# Altium integrated library Resistors.IntLib: 4954 symbols (part 2 of 32)
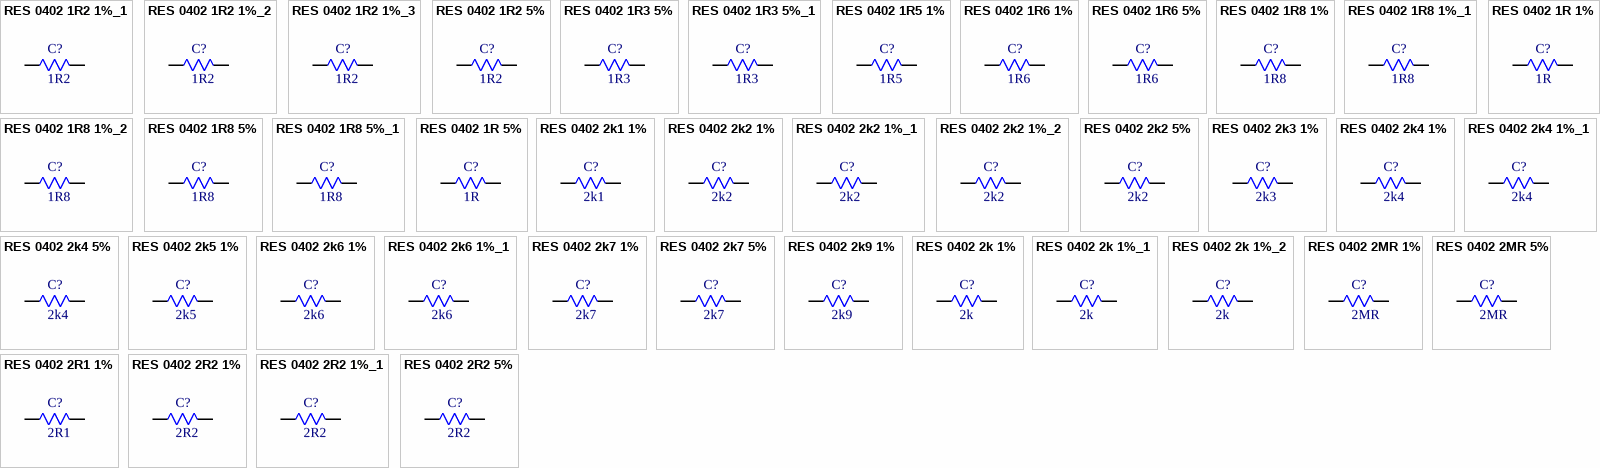
[diagram p124: symbols RES 0402 1R2 1%_1 to RES 0402 2R2 5%]

## RES 0402 2MR 5%
designator C?, comment 2MR
2MR 5% 62.5mW 0402 Thick Film Resistor; Manufacturer: FOJAN; Manufacturer Part Number: FRC0402J205TS; Voltage Rating: 50V; Supplier: LCSC; Supplier Part Number: C2929915; Resistance: 2MR; Tolerance: 5%; Power: 62.5mW
footprint RES SMD 0402
pins: 1, 2

## RES 0402 2R1 1%
designator C?, comment 2R1
2.1MR 62.5mW 50V Thick Film Resistor 1% 0402 Chip Resistor - Surface Mount RoHS; Manufacturer: FOJAN; Manufacturer Part Number: FRC0402F2104TS; Supplier: LCSC; Supplier Part Number: C51048320; Resistance: 2R1; Tolerance: 1%; Voltage Rating: 50V; Power: 62.5mW
footprint RES SMD 0402
pins: 1, 2

## RES 0402 2R2 1%
designator C?, comment 2R2
2.2R 1% 62.5mW 0402 Thick Film Resistor; Manufacturer: FOJAN; Manufacturer Part Number: FRC0402F2R20TS; Voltage Rating: 50V; Supplier: LCSC; Supplier Part Number: C2909330; Resistance: 2R2; Tolerance: 1%; Power: 62.5mW
footprint RES SMD 0402
pins: 1, 2

## RES 0402 2R2 1%_1
designator C?, comment 2R2
2.2MR 1% 62.5mW 0402 Thick Film Resistor; Manufacturer: FOJAN; Manufacturer Part Number: FRC0402F2204TS; Voltage Rating: 50V; Supplier: LCSC; Supplier Part Number: C2998080; Resistance: 2R2; Tolerance: 1%; Power: 62.5mW
footprint RES SMD 0402
pins: 1, 2

## RES 0402 2R2 5%
designator C?, comment 2R2
2.2R 62.5mW 50V Thick Film Resistor 5% 0402 Chip Resistor - Surface Mount RoHS; Manufacturer: FOJAN; Manufacturer Part Number: FRQ0402J2R2 TS; Supplier: LCSC; Supplier Part Number: C52033564; Resistance: 2R2; Tolerance: 5%; Voltage Rating: 50V; Power: 62.5mW
footprint RES SMD 0402
pins: 1, 2

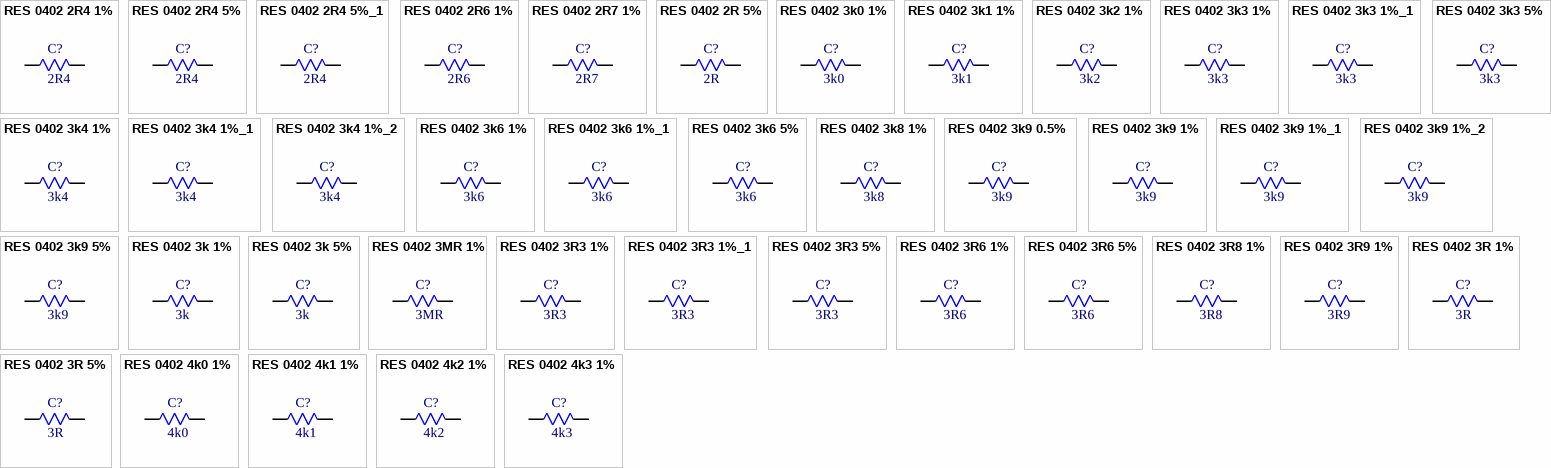
[diagram p4: symbols RES 0402 2R4 1% to RES 0402 4k3 1%]

## RES 0402 2R4 1%
designator C?, comment 2R4
2.49MR 1% 62.5mW 0402 Thick Film Resistor; Manufacturer: FOJAN; Manufacturer Part Number: FRC0402F2494TS; Voltage Rating: 50V; Supplier: LCSC; Supplier Part Number: C5159683; Resistance: 2R4; Tolerance: 1%; Power: 62.5mW
footprint RES SMD 0402
pins: 1, 2

## RES 0402 2R4 5%
designator C?, comment 2R4
2.4MR 62.5mW 50V Thick Film Resistor 5% 100ppm/â„ƒ 0402 Chip Resistor - Surface Mount RoHS; Manufacturer: FOJAN; Manufacturer Part Number: FRC0402J245 TS; Supplier: LCSC; Supplier Part Number: C7467417; Resistance: 2R4; Tolerance: 5%; Voltage Rating: 50V; Power: 62.5mW
footprint RES SMD 0402
pins: 1, 2

## RES 0402 2R4 5%_1
designator C?, comment 2R4
2.4R 5% 62.5mW 0402 Thick Film Resistor; Manufacturer: FOJAN; Manufacturer Part Number: FRC0402J2R4 TS; Voltage Rating: 50V; Supplier: LCSC; Supplier Part Number: C2906904; Resistance: 2R4; Tolerance: 5%; Power: 62.5mW
footprint RES SMD 0402
pins: 1, 2

## RES 0402 2R6 1%
designator C?, comment 2R6
2.67MR 62.5mW 50V Thick Film Resistor 1% 0402 Chip Resistor - Surface Mount RoHS; Manufacturer: FOJAN; Manufacturer Part Number: FRC0402F2674TS; Supplier: LCSC; Supplier Part Number: C51048266; Resistance: 2R6; Tolerance: 1%; Voltage Rating: 50V; Power: 62.5mW
footprint RES SMD 0402
pins: 1, 2

## RES 0402 2R7 1%
designator C?, comment 2R7
2.7R 1% 62.5mW 0402 Thick Film Resistor; Manufacturer: FOJAN; Manufacturer Part Number: FRC0402F2R70TS; Voltage Rating: 50V; Supplier: LCSC; Supplier Part Number: C2998159; Resistance: 2R7; Tolerance: 1%; Power: 62.5mW
footprint RES SMD 0402
pins: 1, 2

## RES 0402 2R 5%
designator C?, comment 2R
2R 62.5mW 50V Thick Film Resistor 5% 0402 Chip Resistor - Surface Mount RoHS; Manufacturer: FOJAN; Manufacturer Part Number: FRQ0402J2R0 TS; Supplier: LCSC; Supplier Part Number: C52033555; Resistance: 2R; Tolerance: 5%; Voltage Rating: 50V; Power: 62.5mW
footprint RES SMD 0402
pins: 1, 2

## RES 0402 3k0 1%
designator C?, comment 3k0
3.09kR 1% 62.5mW 0402 Thick Film Resistor; Manufacturer: FOJAN; Manufacturer Part Number: FRC0402F3091TS; Voltage Rating: 50V; Supplier: LCSC; Supplier Part Number: C42372091; Resistance: 3k0; Tolerance: 1%; Power: 62.5mW
footprint RES SMD 0402
pins: 1, 2

## RES 0402 3k1 1%
designator C?, comment 3k1
3.16kR 1% 62.5mW 0402 Thick Film Resistor; Manufacturer: FOJAN; Manufacturer Part Number: FRC0402F3161TS; Voltage Rating: 50V; Supplier: LCSC; Supplier Part Number: C2933087; Resistance: 3k1; Tolerance: 1%; Power: 62.5mW
footprint RES SMD 0402
pins: 1, 2

## RES 0402 3k2 1%
designator C?, comment 3k2
3.24kR 1% 62.5mW 0402 Thick Film Resistor; Manufacturer: FOJAN; Manufacturer Part Number: FRC0402F3241TS; Voltage Rating: 50V; Supplier: LCSC; Supplier Part Number: C3013163; Resistance: 3k2; Tolerance: 1%; Power: 62.5mW
footprint RES SMD 0402
pins: 1, 2

## RES 0402 3k3 1%
designator C?, comment 3k3
3.3kR 1% 62.5mW 0402 Thick Film Resistor; Manufacturer: FOJAN; Manufacturer Part Number: FRC0402F3301TS; Voltage Rating: 50V; Supplier: LCSC; Supplier Part Number: C2909345; Resistance: 3k3; Tolerance: 1%; Power: 62.5mW
footprint RES SMD 0402
pins: 1, 2

## RES 0402 3k3 1%_1
designator C?, comment 3k3
3.32kR 1% 62.5mW 0402 Thick Film Resistor; Manufacturer: FOJAN; Manufacturer Part Number: FRC0402F3321TS; Voltage Rating: 50V; Supplier: LCSC; Supplier Part Number: C2998161; Resistance: 3k3; Tolerance: 1%; Power: 62.5mW
footprint RES SMD 0402
pins: 1, 2

## RES 0402 3k3 5%
designator C?, comment 3k3
3.3kR 5% 62.5mW 0402 Thick Film Resistor; Manufacturer: FOJAN; Manufacturer Part Number: FRC0402J332 TS; Voltage Rating: 50V; Supplier: LCSC; Supplier Part Number: C2906923; Resistance: 3k3; Tolerance: 5%; Power: 62.5mW
footprint RES SMD 0402
pins: 1, 2

## RES 0402 3k4 1%
designator C?, comment 3k4
3.4kR 1% 62.5mW 0402 Thick Film Resistor; Manufacturer: FOJAN; Manufacturer Part Number: FRC0402F3401TS; Voltage Rating: 50V; Supplier: LCSC; Supplier Part Number: C3013164; Resistance: 3k4; Tolerance: 1%; Power: 62.5mW
footprint RES SMD 0402
pins: 1, 2

## RES 0402 3k4 1%_1
designator C?, comment 3k4
3.48kR 1% 62.5mW 0402 Thick Film Resistor; Manufacturer: FOJAN; Manufacturer Part Number: FRC0402F3481TS; Voltage Rating: 50V; Supplier: LCSC; Supplier Part Number: C5126222; Resistance: 3k4; Tolerance: 1%; Power: 62.5mW
footprint RES SMD 0402
pins: 1, 2

## RES 0402 3k4 1%_2
designator C?, comment 3k4
62.5mW 3.4kR 50V Thick Film Resistor 1% 0402 Chip Resistor - Surface Mount RoHS; Manufacturer: FOJAN; Manufacturer Part Number: FRQ0402F3401TS; Supplier: LCSC; Supplier Part Number: C52033543; Resistance: 3k4; Tolerance: 1%; Voltage Rating: 50V; Power: 62.5mW
footprint RES SMD 0402
pins: 1, 2

## RES 0402 3k6 1%
designator C?, comment 3k6
3.6kR 1% 62.5mW 0402 Thick Film Resistor; Manufacturer: FOJAN; Manufacturer Part Number: FRC0402F3601TS; Voltage Rating: 50V; Supplier: LCSC; Supplier Part Number: C2998073; Resistance: 3k6; Tolerance: 1%; Power: 62.5mW
footprint RES SMD 0402
pins: 1, 2

## RES 0402 3k6 1%_1
designator C?, comment 3k6
3.65kR 1% 62.5mW 0402 Thick Film Resistor; Manufacturer: FOJAN; Manufacturer Part Number: FRC0402F3651TS; Voltage Rating: 50V; Supplier: LCSC; Supplier Part Number: C3013166; Resistance: 3k6; Tolerance: 1%; Power: 62.5mW
footprint RES SMD 0402
pins: 1, 2

## RES 0402 3k6 5%
designator C?, comment 3k6
3.6kR 5% 62.5mW 0402 Thick Film Resistor; Manufacturer: FOJAN; Manufacturer Part Number: FRC0402J362TS; Voltage Rating: 50V; Supplier: LCSC; Supplier Part Number: C2929916; Resistance: 3k6; Tolerance: 5%; Power: 62.5mW
footprint RES SMD 0402
pins: 1, 2

## RES 0402 3k8 1%
designator C?, comment 3k8
3.83kR 1% 62.5mW 0402 Thick Film Resistor; Manufacturer: FOJAN; Manufacturer Part Number: FRC0402F3831TS; Voltage Rating: 50V; Supplier: LCSC; Supplier Part Number: C5159686; Resistance: 3k8; Tolerance: 1%; Power: 62.5mW
footprint RES SMD 0402
pins: 1, 2

## RES 0402 3k9 0.5%
designator C?, comment 3k9
62.5mW 3.9kR 50V Thick Film Resistor 100ppm/â„ƒ 0.5% 0402 Chip Resistor - Surface Mount RoHS; Manufacturer: FOJAN; Manufacturer Part Number: FRH0402D3901TS; Supplier: LCSC; Supplier Part Number: C48533798; Resistance: 3k9; Tolerance: 0.5%; Voltage Rating: 50V; Power: 62.5mW
footprint RES SMD 0402
pins: 1, 2

## RES 0402 3k9 1%
designator C?, comment 3k9
3.9kR 1% 62.5mW 0402 Thick Film Resistor; Manufacturer: FOJAN; Manufacturer Part Number: FRC0402F3901TS; Voltage Rating: 50V; Supplier: LCSC; Supplier Part Number: C2909346; Resistance: 3k9; Tolerance: 1%; Power: 62.5mW
footprint RES SMD 0402
pins: 1, 2

## RES 0402 3k9 1%_1
designator C?, comment 3k9
3.92kR 1% 62.5mW 0402 Thick Film Resistor; Manufacturer: FOJAN; Manufacturer Part Number: FRC0402F3921TS; Voltage Rating: 50V; Supplier: LCSC; Supplier Part Number: C2960797; Resistance: 3k9; Tolerance: 1%; Power: 62.5mW
footprint RES SMD 0402
pins: 1, 2

## RES 0402 3k9 1%_2
designator C?, comment 3k9
62.5mW 3.9kR Thick Film Resistor 1% 100ppm/â„ƒ 0402 Chip Resistor - Surface Mount RoHS; Manufacturer: FOJAN; Manufacturer Part Number: FRQ0402F3901TS; Supplier: LCSC; Supplier Part Number: C7468700; Resistance: 3k9; Tolerance: 1%; Power: 62.5mW
footprint RES SMD 0402
pins: 1, 2

## RES 0402 3k9 5%
designator C?, comment 3k9
3.9kR 5% 62.5mW 0402 Thick Film Resistor; Manufacturer: FOJAN; Manufacturer Part Number: FRC0402J392 TS; Voltage Rating: 50V; Supplier: LCSC; Supplier Part Number: C2906925; Resistance: 3k9; Tolerance: 5%; Power: 62.5mW
footprint RES SMD 0402
pins: 1, 2

## RES 0402 3k 1%
designator C?, comment 3k
3kR 1% 62.5mW 0402 Thick Film Resistor; Manufacturer: FOJAN; Manufacturer Part Number: FRC0402F3001TS; Voltage Rating: 50V; Supplier: LCSC; Supplier Part Number: C2909355; Resistance: 3k; Tolerance: 1%; Power: 62.5mW
footprint RES SMD 0402
pins: 1, 2

## RES 0402 3k 5%
designator C?, comment 3k
3kR 5% 62.5mW 0402 Thick Film Resistor; Manufacturer: FOJAN; Manufacturer Part Number: FRC0402J302 TS; Voltage Rating: 50V; Supplier: LCSC; Supplier Part Number: C2906940; Resistance: 3k; Tolerance: 5%; Power: 62.5mW
footprint RES SMD 0402
pins: 1, 2

## RES 0402 3MR 1%
designator C?, comment 3MR
3MR 1% 62.5mW 0402 Thick Film Resistor; Manufacturer: FOJAN; Manufacturer Part Number: FRC0402F3004TS; Voltage Rating: 50V; Supplier: LCSC; Supplier Part Number: C2998139; Resistance: 3MR; Tolerance: 1%; Power: 62.5mW
footprint RES SMD 0402
pins: 1, 2

## RES 0402 3R3 1%
designator C?, comment 3R3
3.3R 1% 62.5mW 0402 Thick Film Resistor; Manufacturer: FOJAN; Manufacturer Part Number: FRC0402F3R30TS; Voltage Rating: 50V; Supplier: LCSC; Supplier Part Number: C2933094; Resistance: 3R3; Tolerance: 1%; Power: 62.5mW
footprint RES SMD 0402
pins: 1, 2

## RES 0402 3R3 1%_1
designator C?, comment 3R3
3.32MR 1% 62.5mW 0402 Thick Film Resistor; Manufacturer: FOJAN; Manufacturer Part Number: FRC0402F3324TS; Voltage Rating: 50V; Supplier: LCSC; Supplier Part Number: C2998090; Resistance: 3R3; Tolerance: 1%; Power: 62.5mW
footprint RES SMD 0402
pins: 1, 2

## RES 0402 3R3 5%
designator C?, comment 3R3
3.3R 5% 62.5mW 0402 Thick Film Resistor; Manufacturer: FOJAN; Manufacturer Part Number: FRC0402J3R3 TS; Voltage Rating: 50V; Supplier: LCSC; Supplier Part Number: C2906924; Resistance: 3R3; Tolerance: 5%; Power: 62.5mW
footprint RES SMD 0402
pins: 1, 2

## RES 0402 3R6 1%
designator C?, comment 3R6
3.6MR 1% 62.5mW 0402 Thick Film Resistor; Manufacturer: FOJAN; Manufacturer Part Number: FRC0402F3604TS; Voltage Rating: 50V; Supplier: LCSC; Supplier Part Number: C3013165; Resistance: 3R6; Tolerance: 1%; Power: 62.5mW
footprint RES SMD 0402
pins: 1, 2

## RES 0402 3R6 5%
designator C?, comment 3R6
3.6R 5% 62.5mW 0402 Thick Film Resistor; Manufacturer: FOJAN; Manufacturer Part Number: FRC0402J3R6 TS; Voltage Rating: 50V; Supplier: LCSC; Supplier Part Number: C3013190; Resistance: 3R6; Tolerance: 5%; Power: 62.5mW
footprint RES SMD 0402
pins: 1, 2

## RES 0402 3R8 1%
designator C?, comment 3R8
3.83R 1% 62.5mW 0402 Thick Film Resistor; Manufacturer: FOJAN; Manufacturer Part Number: FRC0402F3R83TS; Voltage Rating: 50V; Supplier: LCSC; Supplier Part Number: C3013169; Resistance: 3R8; Tolerance: 1%; Power: 62.5mW
footprint RES SMD 0402
pins: 1, 2

## RES 0402 3R9 1%
designator C?, comment 3R9
3.9R 1% 62.5mW 0402 Thick Film Resistor; Manufacturer: FOJAN; Manufacturer Part Number: FRC0402F3R90TS; Voltage Rating: 50V; Supplier: LCSC; Supplier Part Number: C2933095; Resistance: 3R9; Tolerance: 1%; Power: 62.5mW
footprint RES SMD 0402
pins: 1, 2

## RES 0402 3R 1%
designator C?, comment 3R
3R 1% 62.5mW 0402 Thick Film Resistor; Manufacturer: FOJAN; Manufacturer Part Number: FRC0402F3R00TS; Voltage Rating: 50V; Supplier: LCSC; Supplier Part Number: C2933093; Resistance: 3R; Tolerance: 1%; Power: 62.5mW
footprint RES SMD 0402
pins: 1, 2

## RES 0402 3R 5%
designator C?, comment 3R
3R 5% 62.5mW 0402 Thick Film Resistor; Manufacturer: FOJAN; Manufacturer Part Number: FRC0402J3R0TS; Voltage Rating: 50V; Supplier: LCSC; Supplier Part Number: C2929920; Resistance: 3R; Tolerance: 5%; Power: 62.5mW
footprint RES SMD 0402
pins: 1, 2

## RES 0402 4k0 1%
designator C?, comment 4k0
4.02kR 1% 62.5mW 0402 Thick Film Resistor; Manufacturer: FOJAN; Manufacturer Part Number: FRC0402F4021TS; Voltage Rating: 50V; Supplier: LCSC; Supplier Part Number: C2998093; Resistance: 4k0; Tolerance: 1%; Power: 62.5mW
footprint RES SMD 0402
pins: 1, 2

## RES 0402 4k1 1%
designator C?, comment 4k1
4.12kR 1% 62.5mW 0402 Thick Film Resistor; Manufacturer: FOJAN; Manufacturer Part Number: FRC0402F4121TS; Voltage Rating: 50V; Supplier: LCSC; Supplier Part Number: C2930007; Resistance: 4k1; Tolerance: 1%; Power: 62.5mW
footprint RES SMD 0402
pins: 1, 2

## RES 0402 4k2 1%
designator C?, comment 4k2
4.22kR 1% 62.5mW 0402 Thick Film Resistor; Manufacturer: FOJAN; Manufacturer Part Number: FRC0402F4221TS; Voltage Rating: 50V; Supplier: LCSC; Supplier Part Number: C5159690; Resistance: 4k2; Tolerance: 1%; Power: 62.5mW
footprint RES SMD 0402
pins: 1, 2

## RES 0402 4k3 1%
designator C?, comment 4k3
4.3kR 1% 62.5mW 0402 Thick Film Resistor; Manufacturer: FOJAN; Manufacturer Part Number: FRC0402F4301TS; Voltage Rating: 50V; Supplier: LCSC; Supplier Part Number: C2930008; Resistance: 4k3; Tolerance: 1%; Power: 62.5mW
footprint RES SMD 0402
pins: 1, 2

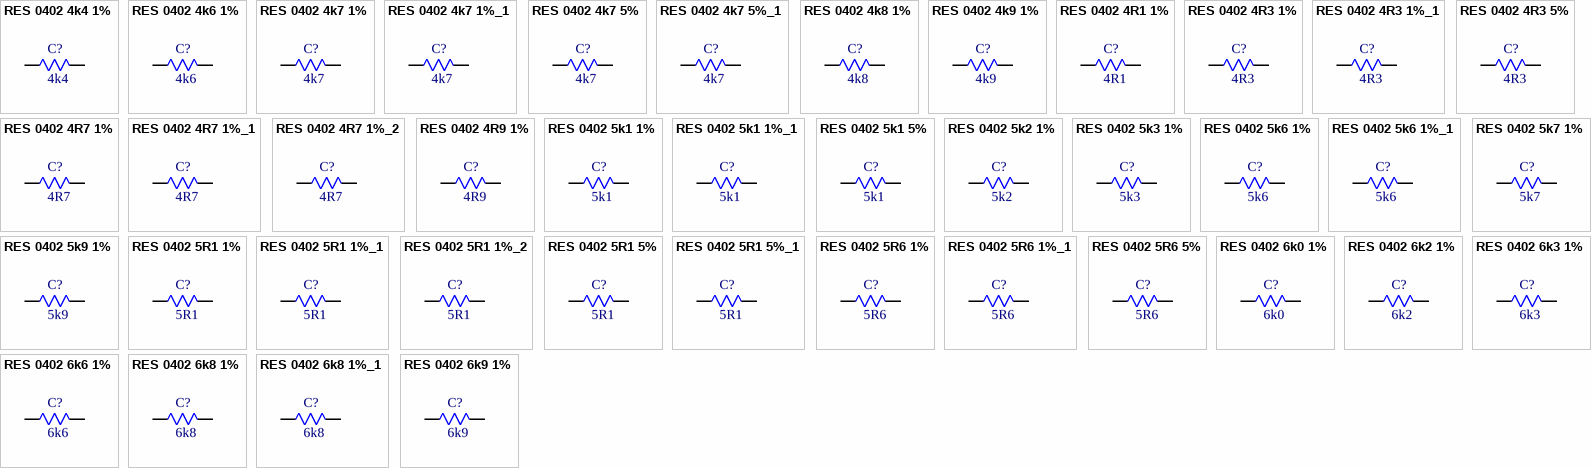
[diagram p5: symbols RES 0402 4k4 1% to RES 0402 6k9 1%]

## RES 0402 4k4 1%
designator C?, comment 4k4
4.42kR 1% 62.5mW 0402 Thick Film Resistor; Manufacturer: FOJAN; Manufacturer Part Number: FRC0402F4421TS; Voltage Rating: 50V; Supplier: LCSC; Supplier Part Number: C3013170; Resistance: 4k4; Tolerance: 1%; Power: 62.5mW
footprint RES SMD 0402
pins: 1, 2

## RES 0402 4k6 1%
designator C?, comment 4k6
4.64kR 1% 62.5mW 0402 Thick Film Resistor; Manufacturer: FOJAN; Manufacturer Part Number: FRC0402F4641TS; Voltage Rating: 50V; Supplier: LCSC; Supplier Part Number: C5153956; Resistance: 4k6; Tolerance: 1%; Power: 62.5mW
footprint RES SMD 0402
pins: 1, 2

## RES 0402 4k7 1%
designator C?, comment 4k7
4.7kR 1% 62.5mW 0402 Thick Film Resistor; Manufacturer: FOJAN; Manufacturer Part Number: FRC0402F4701TS; Voltage Rating: 50V; Supplier: LCSC; Supplier Part Number: C2906869; Resistance: 4k7; Tolerance: 1%; Power: 62.5mW
footprint RES SMD 0402
pins: 1, 2

## RES 0402 4k7 1%_1
designator C?, comment 4k7
4.75kR 1% 62.5mW 0402 Thick Film Resistor; Manufacturer: FOJAN; Manufacturer Part Number: FRC0402F4751TS; Voltage Rating: 50V; Supplier: LCSC; Supplier Part Number: C5126225; Resistance: 4k7; Tolerance: 1%; Power: 62.5mW
footprint RES SMD 0402
pins: 1, 2

## RES 0402 4k7 5%
designator C?, comment 4k7
4.7kR 5% 62.5mW 0402 Thick Film Resistor; Manufacturer: FOJAN; Manufacturer Part Number: FRC0402J472 TS; Voltage Rating: 50V; Supplier: LCSC; Supplier Part Number: C2906941; Resistance: 4k7; Tolerance: 5%; Power: 62.5mW
footprint RES SMD 0402
pins: 1, 2

## RES 0402 4k7 5%_1
designator C?, comment 4k7
62.5mW 4.7kR 50V Thick Film Resistor 5% 100ppm/â„ƒ 0402 Chip Resistor - Surface Mount RoHS; Manufacturer: FOJAN; Manufacturer Part Number: FRQ0402J472 TS; Supplier: LCSC; Supplier Part Number: C7471240; Resistance: 4k7; Tolerance: 5%; Voltage Rating: 50V; Power: 62.5mW
footprint RES SMD 0402
pins: 1, 2

## RES 0402 4k8 1%
designator C?, comment 4k8
4.87kR 1% 62.5mW 0402 Thick Film Resistor; Manufacturer: FOJAN; Manufacturer Part Number: FRC0402F4871TS; Voltage Rating: 50V; Supplier: LCSC; Supplier Part Number: C5203997; Resistance: 4k8; Tolerance: 1%; Power: 62.5mW
footprint RES SMD 0402
pins: 1, 2

## RES 0402 4k9 1%
designator C?, comment 4k9
4.99kR 1% 62.5mW 0402 Thick Film Resistor; Manufacturer: FOJAN; Manufacturer Part Number: FRC0402F4991TS; Voltage Rating: 50V; Supplier: LCSC; Supplier Part Number: C2933102; Resistance: 4k9; Tolerance: 1%; Power: 62.5mW
footprint RES SMD 0402
pins: 1, 2

## RES 0402 4R1 1%
designator C?, comment 4R1
4.12R 1% 62.5mW 0402 Thick Film Resistor; Manufacturer: FOJAN; Manufacturer Part Number: FRC0402F4R12TS; Voltage Rating: 50V; Supplier: LCSC; Supplier Part Number: C3013174; Resistance: 4R1; Tolerance: 1%; Power: 62.5mW
footprint RES SMD 0402
pins: 1, 2

## RES 0402 4R3 1%
designator C?, comment 4R3
4.3R 1% 62.5mW 0402 Thick Film Resistor; Manufacturer: FOJAN; Manufacturer Part Number: FRC0402F4R30TS; Voltage Rating: 50V; Supplier: LCSC; Supplier Part Number: C2933104; Resistance: 4R3; Tolerance: 1%; Power: 62.5mW
footprint RES SMD 0402
pins: 1, 2

## RES 0402 4R3 1%_1
designator C?, comment 4R3
4.3MR 1% 62.5mW 0402 Thick Film Resistor; Manufacturer: FOJAN; Manufacturer Part Number: FRC0402F4304TS; Voltage Rating: 50V; Supplier: LCSC; Supplier Part Number: C2998052; Resistance: 4R3; Tolerance: 1%; Power: 62.5mW
footprint RES SMD 0402
pins: 1, 2

## RES 0402 4R3 5%
designator C?, comment 4R3
4.3R 5% 62.5mW 0402 Thick Film Resistor; Manufacturer: FOJAN; Manufacturer Part Number: FRC0402J4R3 TS; Voltage Rating: 50V; Supplier: LCSC; Supplier Part Number: C5126179; Resistance: 4R3; Tolerance: 5%; Power: 62.5mW
footprint RES SMD 0402
pins: 1, 2

## RES 0402 4R7 1%
designator C?, comment 4R7
4.7MR 1% 62.5mW 0402 Thick Film Resistor; Manufacturer: FOJAN; Manufacturer Part Number: FRC0402F4704TS; Voltage Rating: 50V; Supplier: LCSC; Supplier Part Number: C3013173; Resistance: 4R7; Tolerance: 1%; Power: 62.5mW
footprint RES SMD 0402
pins: 1, 2

## RES 0402 4R7 1%_1
designator C?, comment 4R7
4.7R 1% 62.5mW 0402 Thick Film Resistor; Manufacturer: FOJAN; Manufacturer Part Number: FRC0402F4R70TS; Voltage Rating: 50V; Supplier: LCSC; Supplier Part Number: C2909356; Resistance: 4R7; Tolerance: 1%; Power: 62.5mW
footprint RES SMD 0402
pins: 1, 2

## RES 0402 4R7 1%_2
designator C?, comment 4R7
4.75MR 1% 62.5mW 0402 Thick Film Resistor; Manufacturer: FOJAN; Manufacturer Part Number: FRC0402F4754TS; Voltage Rating: 50V; Supplier: LCSC; Supplier Part Number: C2998153; Resistance: 4R7; Tolerance: 1%; Power: 62.5mW
footprint RES SMD 0402
pins: 1, 2

## RES 0402 4R9 1%
designator C?, comment 4R9
4.99R 1% 62.5mW 0402 Thick Film Resistor; Manufacturer: FOJAN; Manufacturer Part Number: FRC0402F4R99TS; Voltage Rating: 50V; Supplier: LCSC; Supplier Part Number: C5126051; Resistance: 4R9; Tolerance: 1%; Power: 62.5mW
footprint RES SMD 0402
pins: 1, 2

## RES 0402 5k1 1%
designator C?, comment 5k1
5.1kR 1% 62.5mW 0402 Thick Film Resistor; Manufacturer: FOJAN; Manufacturer Part Number: FRC0402F5101TS; Voltage Rating: 50V; Supplier: LCSC; Supplier Part Number: C2906874; Resistance: 5k1; Tolerance: 1%; Power: 62.5mW
footprint RES SMD 0402
pins: 1, 2

## RES 0402 5k1 1%_1
designator C?, comment 5k1
62.5mW 5.1kR Thick Film Resistor 100ppm/â„ƒ 1% 0402 Chip Resistor - Surface Mount RoHS; Manufacturer: FOJAN; Manufacturer Part Number: FRQ0402F5101TS; Supplier: LCSC; Supplier Part Number: C18222253; Resistance: 5k1; Tolerance: 1%; Power: 62.5mW
footprint RES SMD 0402
pins: 1, 2

## RES 0402 5k1 5%
designator C?, comment 5k1
5.1kR 5% 62.5mW 0402 Thick Film Resistor; Manufacturer: FOJAN; Manufacturer Part Number: FRC0402J512 TS; Voltage Rating: 50V; Supplier: LCSC; Supplier Part Number: C2906948; Resistance: 5k1; Tolerance: 5%; Power: 62.5mW
footprint RES SMD 0402
pins: 1, 2

## RES 0402 5k2 1%
designator C?, comment 5k2
5.23kR 1% 62.5mW 0402 Thick Film Resistor; Manufacturer: FOJAN; Manufacturer Part Number: FRC0402F5231TS; Voltage Rating: 50V; Supplier: LCSC; Supplier Part Number: C2933105; Resistance: 5k2; Tolerance: 1%; Power: 62.5mW
footprint RES SMD 0402
pins: 1, 2

## RES 0402 5k3 1%
designator C?, comment 5k3
5.36kR 1% 62.5mW 0402 Thick Film Resistor; Manufacturer: FOJAN; Manufacturer Part Number: FRC0402F5361TS; Voltage Rating: 50V; Supplier: LCSC; Supplier Part Number: C3013176; Resistance: 5k3; Tolerance: 1%; Power: 62.5mW
footprint RES SMD 0402
pins: 1, 2

## RES 0402 5k6 1%
designator C?, comment 5k6
5.6kR 1% 62.5mW 0402 Thick Film Resistor; Manufacturer: FOJAN; Manufacturer Part Number: FRC0402F5601TS; Voltage Rating: 50V; Supplier: LCSC; Supplier Part Number: C2909364; Resistance: 5k6; Tolerance: 1%; Power: 62.5mW
footprint RES SMD 0402
pins: 1, 2

## RES 0402 5k6 1%_1
designator C?, comment 5k6
5.62kR 1% 62.5mW 0402 Thick Film Resistor; Manufacturer: FOJAN; Manufacturer Part Number: FRC0402F5621TS; Voltage Rating: 50V; Supplier: LCSC; Supplier Part Number: C5126194; Resistance: 5k6; Tolerance: 1%; Power: 62.5mW
footprint RES SMD 0402
pins: 1, 2

## RES 0402 5k7 1%
designator C?, comment 5k7
5.76kR 1% 62.5mW 0402 Thick Film Resistor; Manufacturer: FOJAN; Manufacturer Part Number: FRC0402F5761TS; Voltage Rating: 50V; Supplier: LCSC; Supplier Part Number: C5153969; Resistance: 5k7; Tolerance: 1%; Power: 62.5mW
footprint RES SMD 0402
pins: 1, 2

## RES 0402 5k9 1%
designator C?, comment 5k9
5.9kR 1% 62.5mW 0402 Thick Film Resistor; Manufacturer: FOJAN; Manufacturer Part Number: FRC0402F5901TS; Voltage Rating: 50V; Supplier: LCSC; Supplier Part Number: C3013181; Resistance: 5k9; Tolerance: 1%; Power: 62.5mW
footprint RES SMD 0402
pins: 1, 2

## RES 0402 5R1 1%
designator C?, comment 5R1
5.1R 1% 62.5mW 0402 Thick Film Resistor; Manufacturer: FOJAN; Manufacturer Part Number: FRC0402F5R10TS; Voltage Rating: 50V; Supplier: LCSC; Supplier Part Number: C2909363; Resistance: 5R1; Tolerance: 1%; Power: 62.5mW
footprint RES SMD 0402
pins: 1, 2

## RES 0402 5R1 1%_1
designator C?, comment 5R1
5.1MR 1% 62.5mW 0402 Thick Film Resistor; Manufacturer: FOJAN; Manufacturer Part Number: FRC0402F5104TS; Voltage Rating: 50V; Supplier: LCSC; Supplier Part Number: C3013175; Resistance: 5R1; Tolerance: 1%; Power: 62.5mW
footprint RES SMD 0402
pins: 1, 2

## RES 0402 5R1 1%_2
designator C?, comment 5R1
5.11R 1% 62.5mW 0402 Thick Film Resistor; Manufacturer: FOJAN; Manufacturer Part Number: FRC0402F5R11TS; Voltage Rating: 50V; Supplier: LCSC; Supplier Part Number: C2998141; Resistance: 5R1; Tolerance: 1%; Power: 62.5mW
footprint RES SMD 0402
pins: 1, 2

## RES 0402 5R1 5%
designator C?, comment 5R1
5.1R 5% 62.5mW 0402 Thick Film Resistor; Manufacturer: FOJAN; Manufacturer Part Number: FRC0402J5R1 TS; Voltage Rating: 50V; Supplier: LCSC; Supplier Part Number: C2906949; Resistance: 5R1; Tolerance: 5%; Power: 62.5mW
footprint RES SMD 0402
pins: 1, 2

## RES 0402 5R1 5%_1
designator C?, comment 5R1
5.1MR 5% 62.5mW 0402 Thick Film Resistor; Manufacturer: FOJAN; Manufacturer Part Number: FRC0402J515TS; Voltage Rating: 50V; Supplier: LCSC; Supplier Part Number: C2929923; Resistance: 5R1; Tolerance: 5%; Power: 62.5mW
footprint RES SMD 0402
pins: 1, 2

## RES 0402 5R6 1%
designator C?, comment 5R6
5.6R 1% 62.5mW 0402 Thick Film Resistor; Manufacturer: FOJAN; Manufacturer Part Number: FRC0402F5R60TS; Voltage Rating: 50V; Supplier: LCSC; Supplier Part Number: C2998082; Resistance: 5R6; Tolerance: 1%; Power: 62.5mW
footprint RES SMD 0402
pins: 1, 2

## RES 0402 5R6 1%_1
designator C?, comment 5R6
5.6MR 1% 62.5mW 0402 Thick Film Resistor; Manufacturer: FOJAN; Manufacturer Part Number: FRC0402F5604TS; Voltage Rating: 50V; Supplier: LCSC; Supplier Part Number: C3013178; Resistance: 5R6; Tolerance: 1%; Power: 62.5mW
footprint RES SMD 0402
pins: 1, 2

## RES 0402 5R6 5%
designator C?, comment 5R6
5.6MR 5% 62.5mW 0402 Thick Film Resistor; Manufacturer: FOJAN; Manufacturer Part Number: FRC0402J565TS; Voltage Rating: 50V; Supplier: LCSC; Supplier Part Number: C2929925; Resistance: 5R6; Tolerance: 5%; Power: 62.5mW
footprint RES SMD 0402
pins: 1, 2

## RES 0402 6k0 1%
designator C?, comment 6k0
6.04kR 1% 62.5mW 0402 Thick Film Resistor; Manufacturer: FOJAN; Manufacturer Part Number: FRC0402F6041TS; Voltage Rating: 50V; Supplier: LCSC; Supplier Part Number: C2998182; Resistance: 6k0; Tolerance: 1%; Power: 62.5mW
footprint RES SMD 0402
pins: 1, 2

## RES 0402 6k2 1%
designator C?, comment 6k2
6.2kR 1% 62.5mW 0402 Thick Film Resistor; Manufacturer: FOJAN; Manufacturer Part Number: FRC0402F6201TS; Voltage Rating: 50V; Supplier: LCSC; Supplier Part Number: C2909371; Resistance: 6k2; Tolerance: 1%; Power: 62.5mW
footprint RES SMD 0402
pins: 1, 2

## RES 0402 6k3 1%
designator C?, comment 6k3
6.34kR 1% 62.5mW 0402 Thick Film Resistor; Manufacturer: FOJAN; Manufacturer Part Number: FRC0402F6341TS; Voltage Rating: 50V; Supplier: LCSC; Supplier Part Number: C5713274; Resistance: 6k3; Tolerance: 1%; Power: 62.5mW
footprint RES SMD 0402
pins: 1, 2

## RES 0402 6k6 1%
designator C?, comment 6k6
6.65kR 1% 62.5mW 0402 Thick Film Resistor; Manufacturer: FOJAN; Manufacturer Part Number: FRC0402F6651TS; Voltage Rating: 50V; Supplier: LCSC; Supplier Part Number: C2998056; Resistance: 6k6; Tolerance: 1%; Power: 62.5mW
footprint RES SMD 0402
pins: 1, 2

## RES 0402 6k8 1%
designator C?, comment 6k8
6.8kR 1% 62.5mW 0402 Thick Film Resistor; Manufacturer: FOJAN; Manufacturer Part Number: FRC0402F6801TS; Voltage Rating: 50V; Supplier: LCSC; Supplier Part Number: C2906876; Resistance: 6k8; Tolerance: 1%; Power: 62.5mW
footprint RES SMD 0402
pins: 1, 2

## RES 0402 6k8 1%_1
designator C?, comment 6k8
6.8kR 62.5mW 50V Thick Film Resistor 1% 0402 Chip Resistor - Surface Mount RoHS; Manufacturer: FOJAN; Manufacturer Part Number: FRQ0402F6801TS; Supplier: LCSC; Supplier Part Number: C52033536; Resistance: 6k8; Tolerance: 1%; Voltage Rating: 50V; Power: 62.5mW
footprint RES SMD 0402
pins: 1, 2

## RES 0402 6k9 1%
designator C?, comment 6k9
6.98kR 1% 62.5mW 0402 Thick Film Resistor; Manufacturer: FOJAN; Manufacturer Part Number: FRC0402F6981TS; Voltage Rating: 50V; Supplier: LCSC; Supplier Part Number: C2998057; Resistance: 6k9; Tolerance: 1%; Power: 62.5mW
footprint RES SMD 0402
pins: 1, 2

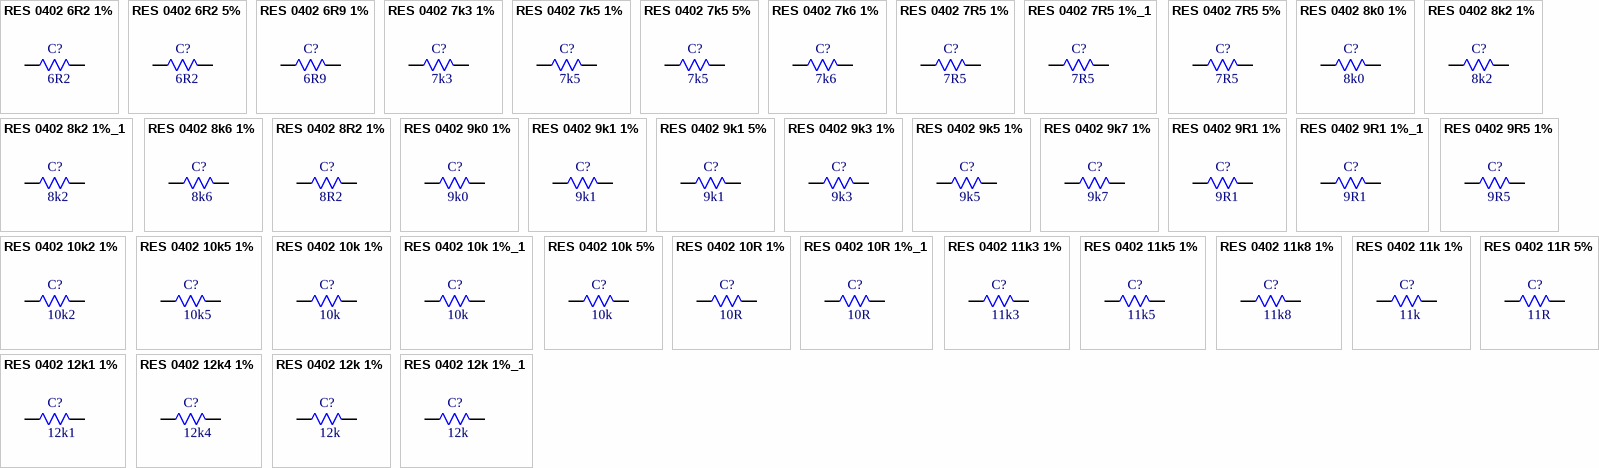
[diagram p6: symbols RES 0402 6R2 1% to RES 0402 12k 1%_1]

## RES 0402 6R2 1%
designator C?, comment 6R2
6.2R 1% 62.5mW 0402 Thick Film Resistor; Manufacturer: FOJAN; Manufacturer Part Number: FRC0402F6R20TS; Voltage Rating: 50V; Supplier: LCSC; Supplier Part Number: C2933108; Resistance: 6R2; Tolerance: 1%; Power: 62.5mW
footprint RES SMD 0402
pins: 1, 2

## RES 0402 6R2 5%
designator C?, comment 6R2
6.2R 5% 62.5mW 0402 Thick Film Resistor; Manufacturer: FOJAN; Manufacturer Part Number: FRC0402J6R2TS; Voltage Rating: 50V; Supplier: LCSC; Supplier Part Number: C2929928; Resistance: 6R2; Tolerance: 5%; Power: 62.5mW
footprint RES SMD 0402
pins: 1, 2

## RES 0402 6R9 1%
designator C?, comment 6R9
62.5mW 6.98R 50V Thick Film Resistor 200ppm/â„ƒ 1% 0402 Chip Resistor - Surface Mount RoHS; Manufacturer: FOJAN; Manufacturer Part Number: FRC0402F6R98TS; Supplier: LCSC; Supplier Part Number: C49196895; Resistance: 6R9; Tolerance: 1%; Voltage Rating: 50V; Power: 62.5mW
footprint RES SMD 0402
pins: 1, 2

## RES 0402 7k3 1%
designator C?, comment 7k3
7.32kR 1% 62.5mW 0402 Thick Film Resistor; Manufacturer: FOJAN; Manufacturer Part Number: FRC0402F7321TS; Voltage Rating: 50V; Supplier: LCSC; Supplier Part Number: C5153971; Resistance: 7k3; Tolerance: 1%; Power: 62.5mW
footprint RES SMD 0402
pins: 1, 2

## RES 0402 7k5 1%
designator C?, comment 7k5
7.5kR 1% 62.5mW 0402 Thick Film Resistor; Manufacturer: FOJAN; Manufacturer Part Number: FRC0402F7501TS; Voltage Rating: 50V; Supplier: LCSC; Supplier Part Number: C2960875; Resistance: 7k5; Tolerance: 1%; Power: 62.5mW
footprint RES SMD 0402
pins: 1, 2

## RES 0402 7k5 5%
designator C?, comment 7k5
7.5kR 5% 62.5mW 0402 Thick Film Resistor; Manufacturer: FOJAN; Manufacturer Part Number: FRC0402J752 TS; Voltage Rating: 50V; Supplier: LCSC; Supplier Part Number: C2906962; Resistance: 7k5; Tolerance: 5%; Power: 62.5mW
footprint RES SMD 0402
pins: 1, 2

## RES 0402 7k6 1%
designator C?, comment 7k6
7.68kR 1% 62.5mW 0402 Thick Film Resistor; Manufacturer: FOJAN; Manufacturer Part Number: FRC0402F7681TS; Voltage Rating: 50V; Supplier: LCSC; Supplier Part Number: C2998097; Resistance: 7k6; Tolerance: 1%; Power: 62.5mW
footprint RES SMD 0402
pins: 1, 2

## RES 0402 7R5 1%
designator C?, comment 7R5
7.5R 1% 62.5mW 0402 Thick Film Resistor; Manufacturer: FOJAN; Manufacturer Part Number: FRC0402F7R50TS; Voltage Rating: 50V; Supplier: LCSC; Supplier Part Number: C2998099; Resistance: 7R5; Tolerance: 1%; Power: 62.5mW
footprint RES SMD 0402
pins: 1, 2

## RES 0402 7R5 1%_1
designator C?, comment 7R5
7.5MR 1% 62.5mW 0402 Thick Film Resistor; Manufacturer: FOJAN; Manufacturer Part Number: FRC0402F7504TS; Voltage Rating: 50V; Supplier: LCSC; Supplier Part Number: C3013187; Resistance: 7R5; Tolerance: 1%; Power: 62.5mW
footprint RES SMD 0402
pins: 1, 2

## RES 0402 7R5 5%
designator C?, comment 7R5
7.5MR 5% 62.5mW 0402 Thick Film Resistor; Manufacturer: FOJAN; Manufacturer Part Number: FRC0402J755 TS; Voltage Rating: 50V; Supplier: LCSC; Supplier Part Number: C2933121; Resistance: 7R5; Tolerance: 5%; Power: 62.5mW
footprint RES SMD 0402
pins: 1, 2

## RES 0402 8k0 1%
designator C?, comment 8k0
8.06kR 1% 62.5mW 0402 Thick Film Resistor; Manufacturer: FOJAN; Manufacturer Part Number: FRC0402F8061TS; Voltage Rating: 50V; Supplier: LCSC; Supplier Part Number: C2960789; Resistance: 8k0; Tolerance: 1%; Power: 62.5mW
footprint RES SMD 0402
pins: 1, 2

## RES 0402 8k2 1%
designator C?, comment 8k2
8.2kR 1% 62.5mW 0402 Thick Film Resistor; Manufacturer: FOJAN; Manufacturer Part Number: FRC0402F8201TS; Voltage Rating: 50V; Supplier: LCSC; Supplier Part Number: C2909385; Resistance: 8k2; Tolerance: 1%; Power: 62.5mW
footprint RES SMD 0402
pins: 1, 2

## RES 0402 8k2 1%_1
designator C?, comment 8k2
8.25kR 1% 62.5mW 0402 Thick Film Resistor; Manufacturer: FOJAN; Manufacturer Part Number: FRC0402F8251TS; Voltage Rating: 50V; Supplier: LCSC; Supplier Part Number: C5126132; Resistance: 8k2; Tolerance: 1%; Power: 62.5mW
footprint RES SMD 0402
pins: 1, 2

## RES 0402 8k6 1%
designator C?, comment 8k6
8.66kR 1% 62.5mW 0402 Thick Film Resistor; Manufacturer: FOJAN; Manufacturer Part Number: FRC0402F8661TS; Voltage Rating: 50V; Supplier: LCSC; Supplier Part Number: C5126133; Resistance: 8k6; Tolerance: 1%; Power: 62.5mW
footprint RES SMD 0402
pins: 1, 2

## RES 0402 8R2 1%
designator C?, comment 8R2
8.2R 1% 62.5mW 0402 Thick Film Resistor; Manufacturer: FOJAN; Manufacturer Part Number: FRC0402F8R20TS; Voltage Rating: 50V; Supplier: LCSC; Supplier Part Number: C2998155; Resistance: 8R2; Tolerance: 1%; Power: 62.5mW
footprint RES SMD 0402
pins: 1, 2

## RES 0402 9k0 1%
designator C?, comment 9k0
9.09kR 1% 62.5mW 0402 Thick Film Resistor; Manufacturer: FOJAN; Manufacturer Part Number: FRC0402F9091TS; Voltage Rating: 50V; Supplier: LCSC; Supplier Part Number: C3013189; Resistance: 9k0; Tolerance: 1%; Power: 62.5mW
footprint RES SMD 0402
pins: 1, 2

## RES 0402 9k1 1%
designator C?, comment 9k1
9.1kR 1% 62.5mW 0402 Thick Film Resistor; Manufacturer: FOJAN; Manufacturer Part Number: FRC0402F9101TS; Voltage Rating: 50V; Supplier: LCSC; Supplier Part Number: C2909390; Resistance: 9k1; Tolerance: 1%; Power: 62.5mW
footprint RES SMD 0402
pins: 1, 2

## RES 0402 9k1 5%
designator C?, comment 9k1
9.1kR 5% 62.5mW 0402 Thick Film Resistor; Manufacturer: FOJAN; Manufacturer Part Number: FRC0402J912 TS; Voltage Rating: 50V; Supplier: LCSC; Supplier Part Number: C2906971; Resistance: 9k1; Tolerance: 5%; Power: 62.5mW
footprint RES SMD 0402
pins: 1, 2

## RES 0402 9k3 1%
designator C?, comment 9k3
62.5mW 9.31kR 50V Thick Film Resistor 1% 100ppm/â„ƒ 0402 Chip Resistor - Surface Mount RoHS; Manufacturer: FOJAN; Manufacturer Part Number: FRC0402F9311TS; Supplier: LCSC; Supplier Part Number: C7467418; Resistance: 9k3; Tolerance: 1%; Voltage Rating: 50V; Power: 62.5mW
footprint RES SMD 0402
pins: 1, 2

## RES 0402 9k5 1%
designator C?, comment 9k5
9.53kR 1% 62.5mW 0402 Thick Film Resistor; Manufacturer: FOJAN; Manufacturer Part Number: FRC0402F9531TS; Voltage Rating: 50V; Supplier: LCSC; Supplier Part Number: C5126160; Resistance: 9k5; Tolerance: 1%; Power: 62.5mW
footprint RES SMD 0402
pins: 1, 2

## RES 0402 9k7 1%
designator C?, comment 9k7
9.76kR 1% 62.5mW 0402 Thick Film Resistor; Manufacturer: FOJAN; Manufacturer Part Number: FRC0402F9761TS; Voltage Rating: 50V; Supplier: LCSC; Supplier Part Number: C2998101; Resistance: 9k7; Tolerance: 1%; Power: 62.5mW
footprint RES SMD 0402
pins: 1, 2

## RES 0402 9R1 1%
designator C?, comment 9R1
9.1MR 1% 62.5mW 0402 Thick Film Resistor; Manufacturer: FOJAN; Manufacturer Part Number: FRC0402F9104TS; Voltage Rating: 50V; Supplier: LCSC; Supplier Part Number: C2998185; Resistance: 9R1; Tolerance: 1%; Power: 62.5mW
footprint RES SMD 0402
pins: 1, 2

## RES 0402 9R1 1%_1
designator C?, comment 9R1
9.1R 1% 62.5mW 0402 Thick Film Resistor; Manufacturer: FOJAN; Manufacturer Part Number: FRC0402F9R10TS; Voltage Rating: 50V; Supplier: LCSC; Supplier Part Number: C2960798; Resistance: 9R1; Tolerance: 1%; Power: 62.5mW
footprint RES SMD 0402
pins: 1, 2

## RES 0402 9R5 1%
designator C?, comment 9R5
9.53R 62.5mW 50V Thick Film Resistor 200ppm/â„ƒ 1% 0402 Chip Resistor - Surface Mount RoHS; Manufacturer: FOJAN; Manufacturer Part Number: FRC0402F9R53TS; Supplier: LCSC; Supplier Part Number: C2998186; Resistance: 9R5; Tolerance: 1%; Voltage Rating: 50V; Power: 62.5mW
footprint RES SMD 0402
pins: 1, 2

## RES 0402 10k2 1%
designator C?, comment 10k2
10.2kR 1% 62.5mW 0402 Thick Film Resistor; Manufacturer: FOJAN; Manufacturer Part Number: FRC0402F1022TS; Voltage Rating: 50V; Supplier: LCSC; Supplier Part Number: C5153958; Resistance: 10k2; Tolerance: 1%; Power: 62.5mW
footprint RES SMD 0402
pins: 1, 2

## RES 0402 10k5 1%
designator C?, comment 10k5
10.5kR 1% 62.5mW 0402 Thick Film Resistor; Manufacturer: FOJAN; Manufacturer Part Number: FRC0402F1052TS; Voltage Rating: 50V; Supplier: LCSC; Supplier Part Number: C3013149; Resistance: 10k5; Tolerance: 1%; Power: 62.5mW
footprint RES SMD 0402
pins: 1, 2

## RES 0402 10k 1%
designator C?, comment 10k
10kR 1% 62.5mW 0402 Thick Film Resistor; Manufacturer: FOJAN; Manufacturer Part Number: FRC0402F1002TS; Voltage Rating: 50V; Supplier: LCSC; Supplier Part Number: C2906861; Resistance: 10k; Tolerance: 1%; Power: 62.5mW
footprint RES SMD 0402
pins: 1, 2

## RES 0402 10k 1%_1
designator C?, comment 10k
10kR 1% 62.5mW 0402 Thick Film Resistor AEC-Q200; Manufacturer: FOJAN; Manufacturer Part Number: FRQ0402F1002TS; Voltage Rating: 50V; Supplier: LCSC; Supplier Part Number: C5126200; Resistance: 10k; Tolerance: 1%; Power: 62.5mW
footprint RES SMD 0402
pins: 1, 2

## RES 0402 10k 5%
designator C?, comment 10k
10kR 5% 62.5mW 0402 Thick Film Resistor AEC-Q200; Manufacturer: FOJAN; Manufacturer Part Number: FRQ0402J103 TS; Voltage Rating: 50V; Supplier: LCSC; Supplier Part Number: C5713431; Resistance: 10k; Tolerance: 5%; Power: 62.5mW
footprint RES SMD 0402
pins: 1, 2

## RES 0402 10R 1%
designator C?, comment 10R
10R 1% 62.5mW 0402 Thick Film Resistor; Manufacturer: FOJAN; Manufacturer Part Number: FRC0402F10R0TS; Voltage Rating: 50V; Supplier: LCSC; Supplier Part Number: C2906862; Resistance: 10R; Tolerance: 1%; Power: 62.5mW
footprint RES SMD 0402
pins: 1, 2

## RES 0402 10R 1%_1
designator C?, comment 10R
10R 62.5mW 50V Thick Film Resistor 1% 0402 Chip Resistor - Surface Mount RoHS; Manufacturer: FOJAN; Manufacturer Part Number: FRQ0402F10R0TS; Supplier: LCSC; Supplier Part Number: C51048239; Resistance: 10R; Tolerance: 1%; Voltage Rating: 50V; Power: 62.5mW
footprint RES SMD 0402
pins: 1, 2

## RES 0402 11k3 1%
designator C?, comment 11k3
62.5mW 11.3kR 50V Thick Film Resistor 1% 100ppm/â„ƒ 0402 Chip Resistor - Surface Mount RoHS; Manufacturer: FOJAN; Manufacturer Part Number: FRC0402F1132TS; Supplier: LCSC; Supplier Part Number: C7467412; Resistance: 11k3; Tolerance: 1%; Voltage Rating: 50V; Power: 62.5mW
footprint RES SMD 0402
pins: 1, 2

## RES 0402 11k5 1%
designator C?, comment 11k5
11.5kR 1% 62.5mW 0402 Thick Film Resistor; Manufacturer: FOJAN; Manufacturer Part Number: FRC0402F1152TS; Voltage Rating: 50V; Supplier: LCSC; Supplier Part Number: C2933068; Resistance: 11k5; Tolerance: 1%; Power: 62.5mW
footprint RES SMD 0402
pins: 1, 2

## RES 0402 11k8 1%
designator C?, comment 11k8
11.8kR 1% 62.5mW 0402 Thick Film Resistor; Manufacturer: FOJAN; Manufacturer Part Number: FRC0402F1182TS; Voltage Rating: 50V; Supplier: LCSC; Supplier Part Number: C2929934; Resistance: 11k8; Tolerance: 1%; Power: 62.5mW
footprint RES SMD 0402
pins: 1, 2

## RES 0402 11k 1%
designator C?, comment 11k
11kR 1% 62.5mW 0402 Thick Film Resistor; Manufacturer: FOJAN; Manufacturer Part Number: FRC0402F1102TS; Voltage Rating: 50V; Supplier: LCSC; Supplier Part Number: C2909313; Resistance: 11k; Tolerance: 1%; Power: 62.5mW
footprint RES SMD 0402
pins: 1, 2

## RES 0402 11R 5%
designator C?, comment 11R
11R 5% 62.5mW 0402 Thick Film Resistor; Manufacturer: FOJAN; Manufacturer Part Number: FRC0402J110 TS; Voltage Rating: 50V; Supplier: LCSC; Supplier Part Number: C2974014; Resistance: 11R; Tolerance: 5%; Power: 62.5mW
footprint RES SMD 0402
pins: 1, 2

## RES 0402 12k1 1%
designator C?, comment 12k1
12.1kR 1% 62.5mW 0402 Thick Film Resistor; Manufacturer: FOJAN; Manufacturer Part Number: FRC0402F1212TS; Voltage Rating: 50V; Supplier: LCSC; Supplier Part Number: C2933069; Resistance: 12k1; Tolerance: 1%; Power: 62.5mW
footprint RES SMD 0402
pins: 1, 2

## RES 0402 12k4 1%
designator C?, comment 12k4
12.4kR 1% 62.5mW 0402 Thick Film Resistor; Manufacturer: FOJAN; Manufacturer Part Number: FRC0402F1242TS; Voltage Rating: 50V; Supplier: LCSC; Supplier Part Number: C2929935; Resistance: 12k4; Tolerance: 1%; Power: 62.5mW
footprint RES SMD 0402
pins: 1, 2

## RES 0402 12k 1%
designator C?, comment 12k
12kR 1% 62.5mW 0402 Thick Film Resistor; Manufacturer: FOJAN; Manufacturer Part Number: FRC0402F1202TS; Voltage Rating: 50V; Supplier: LCSC; Supplier Part Number: C2909316; Resistance: 12k; Tolerance: 1%; Power: 62.5mW
footprint RES SMD 0402
pins: 1, 2

## RES 0402 12k 1%_1
designator C?, comment 12k
12kR 62.5mW 50V Thick Film Resistor 1% 0402 Chip Resistor - Surface Mount RoHS; Manufacturer: FOJAN; Manufacturer Part Number: FRQ0402F1202TS; Supplier: LCSC; Supplier Part Number: C52033541; Resistance: 12k; Tolerance: 1%; Voltage Rating: 50V; Power: 62.5mW
footprint RES SMD 0402
pins: 1, 2

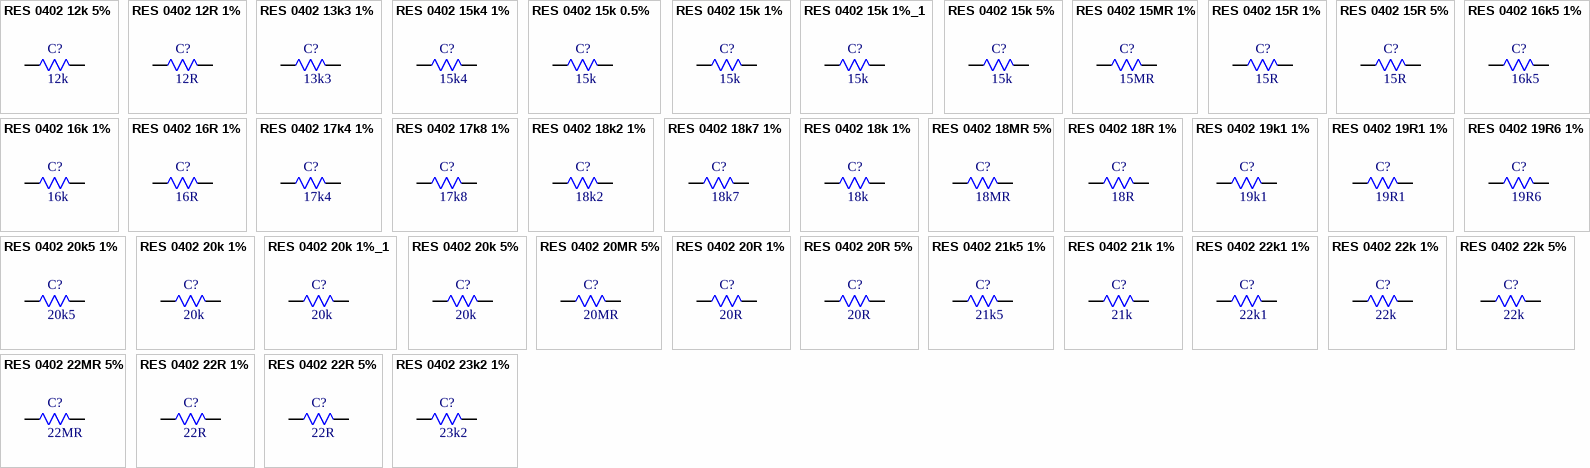
[diagram p7: symbols RES 0402 12k 5% to RES 0402 23k2 1%]

## RES 0402 12k 5%
designator C?, comment 12k
12kR 5% 62.5mW 0402 Thick Film Resistor; Manufacturer: FOJAN; Manufacturer Part Number: FRC0402J123 TS; Voltage Rating: 50V; Supplier: LCSC; Supplier Part Number: C2906889; Resistance: 12k; Tolerance: 5%; Power: 62.5mW
footprint RES SMD 0402
pins: 1, 2

## RES 0402 12R 1%
designator C?, comment 12R
12R 1% 62.5mW 0402 Thick Film Resistor; Manufacturer: FOJAN; Manufacturer Part Number: FRC0402F12R0TS; Voltage Rating: 50V; Supplier: LCSC; Supplier Part Number: C2909317; Resistance: 12R; Tolerance: 1%; Power: 62.5mW
footprint RES SMD 0402
pins: 1, 2

## RES 0402 13k3 1%
designator C?, comment 13k3
13.3kR 1% 62.5mW 0402 Thick Film Resistor; Manufacturer: FOJAN; Manufacturer Part Number: FRC0402F1332TS; Voltage Rating: 50V; Supplier: LCSC; Supplier Part Number: C2974007; Resistance: 13k3; Tolerance: 1%; Power: 62.5mW
footprint RES SMD 0402
pins: 1, 2

## RES 0402 15k4 1%
designator C?, comment 15k4
62.5mW 15.4kR 50V Thick Film Resistor 100ppm/â„ƒ 1% 0402 Chip Resistor - Surface Mount RoHS; Manufacturer: FOJAN; Manufacturer Part Number: FRC0402F1542TS; Supplier: LCSC; Supplier Part Number: C48533702; Resistance: 15k4; Tolerance: 1%; Voltage Rating: 50V; Power: 62.5mW
footprint RES SMD 0402
pins: 1, 2

## RES 0402 15k 0.5%
designator C?, comment 15k
15kR 62.5mW Thick Film Resistor 100ppm/â„ƒ 0.5% 0402 Chip Resistor - Surface Mount RoHS; Manufacturer: FOJAN; Manufacturer Part Number: FRH0402D1502TS; Supplier: LCSC; Supplier Part Number: C22375133; Resistance: 15k; Tolerance: 0.5%; Power: 62.5mW
footprint RES SMD 0402
pins: 1, 2

## RES 0402 15k 1%
designator C?, comment 15k
15kR 1% 62.5mW 0402 Thick Film Resistor; Manufacturer: FOJAN; Manufacturer Part Number: FRC0402F1502TS; Voltage Rating: 50V; Supplier: LCSC; Supplier Part Number: C2909322; Resistance: 15k; Tolerance: 1%; Power: 62.5mW
footprint RES SMD 0402
pins: 1, 2

## RES 0402 15k 1%_1
designator C?, comment 15k
15kR 62.5mW 50V Thick Film Resistor 100ppm/â„ƒ 1% 0402 Chip Resistor - Surface Mount RoHS; Manufacturer: FOJAN; Manufacturer Part Number: FRQ0402F1502TS; Supplier: LCSC; Supplier Part Number: C18222250; Resistance: 15k; Tolerance: 1%; Voltage Rating: 50V; Power: 62.5mW
footprint RES SMD 0402
pins: 1, 2

## RES 0402 15k 5%
designator C?, comment 15k
15kR 5% 62.5mW 0402 Thick Film Resistor; Manufacturer: FOJAN; Manufacturer Part Number: FRC0402J153 TS; Voltage Rating: 50V; Supplier: LCSC; Supplier Part Number: C2906893; Resistance: 15k; Tolerance: 5%; Power: 62.5mW
footprint RES SMD 0402
pins: 1, 2

## RES 0402 15MR 1%
designator C?, comment 15MR
15MR 1% 0402 Thick Film Resistor; Manufacturer: FOJAN; Manufacturer Part Number: FRG0402F1505TS; Supplier: LCSC; Supplier Part Number: C3000523; Resistance: 15MR; Tolerance: 1%
footprint RES SMD 0402
pins: 1, 2

## RES 0402 15R 1%
designator C?, comment 15R
15R 1% 62.5mW 0402 Thick Film Resistor; Manufacturer: FOJAN; Manufacturer Part Number: FRC0402F15R0TS; Voltage Rating: 50V; Supplier: LCSC; Supplier Part Number: C2909323; Resistance: 15R; Tolerance: 1%; Power: 62.5mW
footprint RES SMD 0402
pins: 1, 2

## RES 0402 15R 5%
designator C?, comment 15R
15R 5% 62.5mW 0402 Thick Film Resistor; Manufacturer: FOJAN; Manufacturer Part Number: FRC0402J150 TS; Voltage Rating: 50V; Supplier: LCSC; Supplier Part Number: C2906894; Resistance: 15R; Tolerance: 5%; Power: 62.5mW
footprint RES SMD 0402
pins: 1, 2

## RES 0402 16k5 1%
designator C?, comment 16k5
16.5kR 1% 62.5mW 0402 Thick Film Resistor; Manufacturer: FOJAN; Manufacturer Part Number: FRC0402F1652TS; Voltage Rating: 50V; Supplier: LCSC; Supplier Part Number: C3013155; Resistance: 16k5; Tolerance: 1%; Power: 62.5mW
footprint RES SMD 0402
pins: 1, 2

## RES 0402 16k 1%
designator C?, comment 16k
16kR 1% 62.5mW 0402 Thick Film Resistor; Manufacturer: FOJAN; Manufacturer Part Number: FRC0402F1602TS; Voltage Rating: 50V; Supplier: LCSC; Supplier Part Number: C2906863; Resistance: 16k; Tolerance: 1%; Power: 62.5mW
footprint RES SMD 0402
pins: 1, 2

## RES 0402 16R 1%
designator C?, comment 16R
16R 1% 62.5mW 0402 Thick Film Resistor; Manufacturer: FOJAN; Manufacturer Part Number: FRC0402F16R0TS; Voltage Rating: 50V; Supplier: LCSC; Supplier Part Number: C2909324; Resistance: 16R; Tolerance: 1%; Power: 62.5mW
footprint RES SMD 0402
pins: 1, 2

## RES 0402 17k4 1%
designator C?, comment 17k4
17.4kR 1% 62.5mW 0402 Thick Film Resistor; Manufacturer: FOJAN; Manufacturer Part Number: FRC0402F1742TS; Voltage Rating: 50V; Supplier: LCSC; Supplier Part Number: C2933077; Resistance: 17k4; Tolerance: 1%; Power: 62.5mW
footprint RES SMD 0402
pins: 1, 2

## RES 0402 17k8 1%
designator C?, comment 17k8
17.8kR 1% 62.5mW 0402 Thick Film Resistor; Manufacturer: FOJAN; Manufacturer Part Number: FRC0402F1782TS; Voltage Rating: 50V; Supplier: LCSC; Supplier Part Number: C2933078; Resistance: 17k8; Tolerance: 1%; Power: 62.5mW
footprint RES SMD 0402
pins: 1, 2

## RES 0402 18k2 1%
designator C?, comment 18k2
18.2kR 1% 62.5mW 0402 Thick Film Resistor; Manufacturer: FOJAN; Manufacturer Part Number: FRC0402F1822TS; Voltage Rating: 50V; Supplier: LCSC; Supplier Part Number: C2998079; Resistance: 18k2; Tolerance: 1%; Power: 62.5mW
footprint RES SMD 0402
pins: 1, 2

## RES 0402 18k7 1%
designator C?, comment 18k7
18.7kR 1% 62.5mW 0402 Thick Film Resistor; Manufacturer: FOJAN; Manufacturer Part Number: FRC0402F1872TS; Voltage Rating: 50V; Supplier: LCSC; Supplier Part Number: C5153953; Resistance: 18k7; Tolerance: 1%; Power: 62.5mW
footprint RES SMD 0402
pins: 1, 2

## RES 0402 18k 1%
designator C?, comment 18k
18kR 1% 62.5mW 0402 Thick Film Resistor; Manufacturer: FOJAN; Manufacturer Part Number: FRC0402F1802TS; Voltage Rating: 50V; Supplier: LCSC; Supplier Part Number: C2909327; Resistance: 18k; Tolerance: 1%; Power: 62.5mW
footprint RES SMD 0402
pins: 1, 2

## RES 0402 18MR 5%
designator C?, comment 18MR
62.5mW 18MR Thick Film Resistor 5% 200ppm/â„ƒ 0402 Chip Resistor - Surface Mount RoHS; Manufacturer: FOJAN; Manufacturer Part Number: FRG0402J186 TS; Supplier: LCSC; Supplier Part Number: C42372201; Resistance: 18MR; Tolerance: 5%; Power: 62.5mW
footprint RES SMD 0402
pins: 1, 2

## RES 0402 18R 1%
designator C?, comment 18R
18R 1% 62.5mW 0402 Thick Film Resistor; Manufacturer: FOJAN; Manufacturer Part Number: FRC0402F18R0TS; Voltage Rating: 50V; Supplier: LCSC; Supplier Part Number: C2929991; Resistance: 18R; Tolerance: 1%; Power: 62.5mW
footprint RES SMD 0402
pins: 1, 2

## RES 0402 19k1 1%
designator C?, comment 19k1
19.1kR 1% 62.5mW 0402 Thick Film Resistor; Manufacturer: FOJAN; Manufacturer Part Number: FRC0402F1912TS; Voltage Rating: 50V; Supplier: LCSC; Supplier Part Number: C2998158; Resistance: 19k1; Tolerance: 1%; Power: 62.5mW
footprint RES SMD 0402
pins: 1, 2

## RES 0402 19R1 1%
designator C?, comment 19R1
19.1R 1% 62.5mW 0402 Thick Film Resistor; Manufacturer: FOJAN; Manufacturer Part Number: FRC0402F19R1TS; Voltage Rating: 50V; Supplier: LCSC; Supplier Part Number: C2998046; Resistance: 19R1; Tolerance: 1%; Power: 62.5mW
footprint RES SMD 0402
pins: 1, 2

## RES 0402 19R6 1%
designator C?, comment 19R6
62.5mW 19.6R 50V Thick Film Resistor 100ppm/â„ƒ 1% 0402 Chip Resistor - Surface Mount RoHS; Manufacturer: FOJAN; Manufacturer Part Number: FRC0402F19R6TS; Supplier: LCSC; Supplier Part Number: C51048289; Resistance: 19R6; Tolerance: 1%; Voltage Rating: 50V; Power: 62.5mW
footprint RES SMD 0402
pins: 1, 2

## RES 0402 20k5 1%
designator C?, comment 20k5
20.5kR 1% 62.5mW 0402 Thick Film Resistor; Manufacturer: FOJAN; Manufacturer Part Number: FRC0402F2052TS; Voltage Rating: 50V; Supplier: LCSC; Supplier Part Number: C2998069; Resistance: 20k5; Tolerance: 1%; Power: 62.5mW
footprint RES SMD 0402
pins: 1, 2

## RES 0402 20k 1%
designator C?, comment 20k
20kR 1% 62.5mW 0402 Thick Film Resistor; Manufacturer: FOJAN; Manufacturer Part Number: FRC0402F2002TS; Voltage Rating: 50V; Supplier: LCSC; Supplier Part Number: C2906867; Resistance: 20k; Tolerance: 1%; Power: 62.5mW
footprint RES SMD 0402
pins: 1, 2

## RES 0402 20k 1%_1
designator C?, comment 20k
62.5mW 20kR 50V Thick Film Resistor 100ppm/â„ƒ 1% 0402 Chip Resistor - Surface Mount RoHS; Manufacturer: FOJAN; Manufacturer Part Number: FRQ0402F2002TS; Supplier: LCSC; Supplier Part Number: C49196870; Resistance: 20k; Tolerance: 1%; Voltage Rating: 50V; Power: 62.5mW
footprint RES SMD 0402
pins: 1, 2

## RES 0402 20k 5%
designator C?, comment 20k
20kR 5% 62.5mW 0402 Thick Film Resistor; Manufacturer: FOJAN; Manufacturer Part Number: FRC0402J203 TS; Voltage Rating: 50V; Supplier: LCSC; Supplier Part Number: C2906909; Resistance: 20k; Tolerance: 5%; Power: 62.5mW
footprint RES SMD 0402
pins: 1, 2

## RES 0402 20MR 5%
designator C?, comment 20MR
20MR 5% 62.5mW 0402 Thick Film Resistor; Manufacturer: FOJAN; Manufacturer Part Number: FRG0402J206 TS; Supplier: LCSC; Supplier Part Number: C3013333; Resistance: 20MR; Tolerance: 5%; Power: 62.5mW
footprint RES SMD 0402
pins: 1, 2

## RES 0402 20R 1%
designator C?, comment 20R
20R 1% 62.5mW 0402 Thick Film Resistor; Manufacturer: FOJAN; Manufacturer Part Number: FRC0402F20R0TS; Voltage Rating: 50V; Supplier: LCSC; Supplier Part Number: C2909334; Resistance: 20R; Tolerance: 1%; Power: 62.5mW
footprint RES SMD 0402
pins: 1, 2

## RES 0402 20R 5%
designator C?, comment 20R
20R 5% 62.5mW 0402 Thick Film Resistor; Manufacturer: FOJAN; Manufacturer Part Number: FRC0402J200 TS; Voltage Rating: 50V; Supplier: LCSC; Supplier Part Number: C2906910; Resistance: 20R; Tolerance: 5%; Power: 62.5mW
footprint RES SMD 0402
pins: 1, 2

## RES 0402 21k5 1%
designator C?, comment 21k5
21.5kR 1% 62.5mW 0402 Thick Film Resistor; Manufacturer: FOJAN; Manufacturer Part Number: FRC0402F2152TS; Voltage Rating: 50V; Supplier: LCSC; Supplier Part Number: C2933081; Resistance: 21k5; Tolerance: 1%; Power: 62.5mW
footprint RES SMD 0402
pins: 1, 2

## RES 0402 21k 1%
designator C?, comment 21k
21kR 1% 62.5mW 0402 Thick Film Resistor; Manufacturer: FOJAN; Manufacturer Part Number: FRC0402F2102TS; Voltage Rating: 50V; Supplier: LCSC; Supplier Part Number: C2998083; Resistance: 21k; Tolerance: 1%; Power: 62.5mW
footprint RES SMD 0402
pins: 1, 2

## RES 0402 22k1 1%
designator C?, comment 22k1
22.1kR 1% 62.5mW 0402 Thick Film Resistor; Manufacturer: FOJAN; Manufacturer Part Number: FRC0402F2212TS; Voltage Rating: 50V; Supplier: LCSC; Supplier Part Number: C2929993; Resistance: 22k1; Tolerance: 1%; Power: 62.5mW
footprint RES SMD 0402
pins: 1, 2

## RES 0402 22k 1%
designator C?, comment 22k
22kR 1% 62.5mW 0402 Thick Film Resistor; Manufacturer: FOJAN; Manufacturer Part Number: FRC0402F2202TS; Voltage Rating: 50V; Supplier: LCSC; Supplier Part Number: C2909337; Resistance: 22k; Tolerance: 1%; Power: 62.5mW
footprint RES SMD 0402
pins: 1, 2

## RES 0402 22k 5%
designator C?, comment 22k
22kR 5% 62.5mW 0402 Thick Film Resistor; Manufacturer: FOJAN; Manufacturer Part Number: FRC0402J223 TS; Voltage Rating: 50V; Supplier: LCSC; Supplier Part Number: C2906913; Resistance: 22k; Tolerance: 5%; Power: 62.5mW
footprint RES SMD 0402
pins: 1, 2